# Altium footprint library 贴片.PcbLib: 190 footprints (part 3 of 13)
Each footprint in its own frame and in the unit in brackets; x right, y up, seen from the top. Pads: shape width x height; smd on the part's side, far side on the other; paste and mask are expansions set on the pad; w line width, h text height; cw(c..) or ccw(c..) is an arc to the next point about the centre after c.
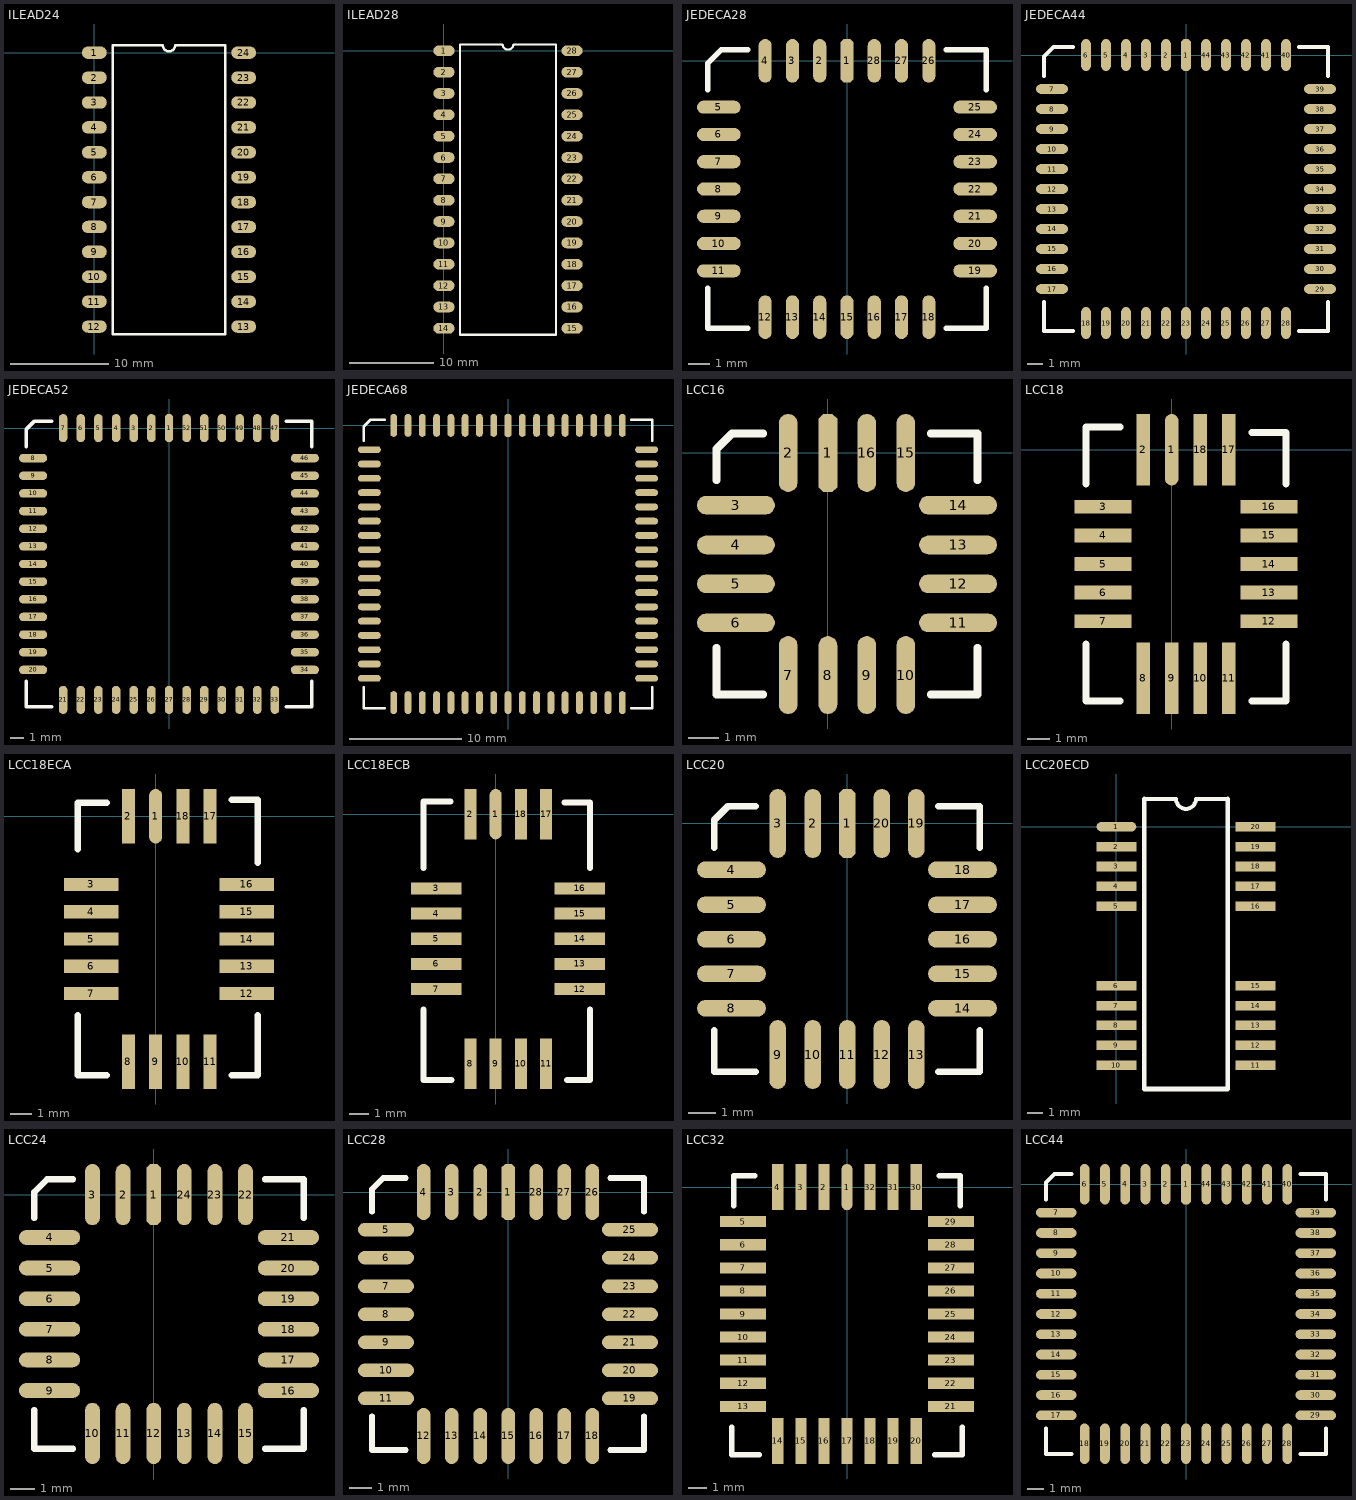
[diagram p2: the footprints below, top view; thin cyan lines are the x and y axes]

## ILEAD24 [mil]
pads (24):
  oval 100x50 smd: 1(0,0) 2(0,-100) 3(0,-200) 4(0,-300) 5(0,-400) 6(0,-500) 7(0,-600) 8(0,-700) 9(0,-800) 10(0,-900) 11(0,-1000) 12(0,-1100) 13(600,-1100) 14(600,-1000) 15(600,-900) 16(600,-800) 17(600,-700) 18(600,-600) 19(600,-500) 20(600,-400) 21(600,-300) 22(600,-200) 23(600,-100) 24(600,0)
TopOverlay:
  lines w10: 75,-1130 75,30 275,30 ccw(c300,30) 325,30 525,30 525,-1130 75,-1130

## ILEAD28 [mil]
pads (28):
  oval 100x50 smd: 1(0,0) 2(0,-100) 3(0,-200) 4(0,-300) 5(0,-400) 6(0,-500) 7(0,-600) 8(0,-700) 9(0,-800) 10(0,-900) 11(0,-1000) 12(0,-1100) 13(0,-1200) 14(0,-1300) 15(600,-1300) 16(600,-1200) 17(600,-1100) 18(600,-1000) 19(600,-900) 20(600,-800) 21(600,-700) 22(600,-600) 23(600,-500) 24(600,-400) 25(600,-300) 26(600,-200) 27(600,-100) 28(600,0)
TopOverlay:
  lines w10: 75,-1330 525,-1330 525,30 325,30 cw(c300,30) 275,30 75,30 75,-1330

## JEDECA28 [mil]
pads (28):
  oct 24x80 smd: 1(0,0)
  oval 24x80 smd: 2(-50,0) 3(-100,0) 4(-150,0) 12(-150,-470) 13(-100,-470) 14(-50,-470) 15(0,-470) 16(50,-470) 17(100,-470) 18(150,-470) 26(150,0) 27(100,0) 28(50,0)
  oval 80x24 smd: 5(-235,-85) 6(-235,-135) 7(-235,-185) 8(-235,-235) 9(-235,-285) 10(-235,-335) 11(-235,-385) 19(235,-385) 20(235,-335) 21(235,-285) 22(235,-235) 23(235,-185) 24(235,-135) 25(235,-85)
TopOverlay:
  lines w10: -255,-417 -255,-490 -182,-490 ; -255,-53 -255,-4 -231,20 -182,20 ; 182,-490 255,-490 255,-417 ; 182,20 255,20 255,-53

## JEDECA44 [mil]
pads (44):
  oct 24x80 smd: 1(0,0)
  oval 24x80 smd: 2(-50,0) 3(-100,0) 4(-150,0) 5(-200,0) 6(-250,0) 18(-250,-670) 19(-200,-670) 20(-150,-670) 21(-100,-670) 22(-50,-670) 23(0,-670) 24(50,-670) 25(100,-670) 26(150,-670) 27(200,-670) 28(250,-670) 40(250,0) 41(200,0) 42(150,0) 43(100,0) 44(50,0)
  oval 80x24 smd: 7(-335,-85) 8(-335,-135) 9(-335,-185) 10(-335,-235) 11(-335,-285) 12(-335,-335) 13(-335,-385) 14(-335,-435) 15(-335,-485) 16(-335,-535) 17(-335,-585) 29(335,-585) 30(335,-535) 31(335,-485) 32(335,-435) 33(335,-385) 34(335,-335) 35(335,-285) 36(335,-235) 37(335,-185) 38(335,-135) 39(335,-85)
TopOverlay:
  lines w10: -355,-617 -355,-690 -282,-690 ; -355,-53 -355,-4 -331,20 -282,20 ; 282,-690 355,-690 355,-617 ; 282,20 355,20 355,-53

## JEDECA52 [mil]
pads (52):
  oct 24x80 smd: 1(0,0)
  oval 24x80 smd: 2(-50,0) 3(-100,0) 4(-150,0) 5(-200,0) 6(-250,0) 7(-300,0) 21(-300,-770) 22(-250,-770) 23(-200,-770) 24(-150,-770) 25(-100,-770) 26(-50,-770) 27(0,-770) 28(50,-770) 29(100,-770) 30(150,-770) 31(200,-770) 32(250,-770) 33(300,-770) 47(300,0) 48(250,0) 49(200,0) 50(150,0) 51(100,0) 52(50,0)
  oval 80x24 smd: 8(-385,-85) 9(-385,-135) 10(-385,-185) 11(-385,-235) 12(-385,-285) 13(-385,-335) 14(-385,-385) 15(-385,-435) 16(-385,-485) 17(-385,-535) 18(-385,-585) 19(-385,-635) 20(-385,-685) 34(385,-685) 35(385,-635) 36(385,-585) 37(385,-535) 38(385,-485) 39(385,-435) 40(385,-385) 41(385,-335) 42(385,-285) 43(385,-235) 44(385,-185) 45(385,-135) 46(385,-85)
TopOverlay:
  lines w10: -405,-717 -405,-790 -332,-790 ; -405,-53 -405,-4 -381,20 -332,20 ; 332,-790 405,-790 405,-717 ; 332,20 405,20 405,-53

## JEDECA68 [mil]
pads (68):
  oct 24x80 smd: 1(0,0)
  oval 24x80 smd: 2(-50,0) 3(-100,0) 4(-150,0) 5(-200,0) 6(-250,0) 7(-300,0) 8(-350,0) 9(-400,0) 27(-400,-970) 28(-350,-970) 29(-300,-970) 30(-250,-970) 31(-200,-970) 32(-150,-970) 33(-100,-970) 34(-50,-970) 35(0,-970) 36(50,-970) 37(100,-970) 38(150,-970) 39(200,-970) 40(250,-970) 41(300,-970) 42(350,-970) 43(400,-970) 61(400,0) 62(350,0) 63(300,0) 64(250,0) 65(200,0) 66(150,0) 67(100,0) 68(50,0)
  oval 80x24 smd: 10(-485,-85) 11(-485,-135) 12(-485,-185) 13(-485,-235) 14(-485,-285) 15(-485,-335) 16(-485,-385) 17(-485,-435) 18(-485,-485) 19(-485,-535) 20(-485,-585) 21(-485,-635) 22(-485,-685) 23(-485,-735) 24(-485,-785) 25(-485,-835) 26(-485,-885) 44(485,-885) 45(485,-835) 46(485,-785) 47(485,-735) 48(485,-685) 49(485,-635) 50(485,-585) 51(485,-535) 52(485,-485) 53(485,-435) 54(485,-385) 55(485,-335) 56(485,-285) 57(485,-235) 58(485,-185) 59(485,-135) 60(485,-85)
TopOverlay:
  lines w10: -505,-917 -505,-990 -432,-990 ; -505,-53 -505,-4 -481,20 -432,20 ; 432,-990 505,-990 505,-917 ; 432,20 505,20 505,-53

## LCC16 [mil]
pads (16):
  oct 24x100 smd: 1(0,0)
  oval 24x100 smd: 2(-51,0) 7(-51,-285) 8(0,-285) 9(50,-285) 10(100,-285) 15(100,0) 16(50,0)
  oval 100x24 smd: 3(-118,-67) 4(-118,-118) 5(-118,-168) 6(-118,-218) 11(167,-218) 12(167,-168) 13(167,-118) 14(167,-67)
TopOverlay:
  lines w10: -143,-250 -143,-310 -83,-310 ; -143,-35 -143,5 -123,25 -83,25 ; 132,-310 192,-310 192,-250 ; 132,25 192,25 192,-35

## LCC18 [mil]
pads (18):
  oval 24x125 smd: 1(0,0)
  rect 24x125 smd: 2(-50,0) 8(-50,-400) 9(0,-400) 10(50,-400) 11(100,-400) 17(100,0) 18(50,0)
  rect 100x24 smd: 3(-120,-100) 4(-120,-150) 5(-120,-200) 6(-120,-250) 7(-120,-300) 12(170,-300) 13(170,-250) 14(170,-200) 15(170,-150) 16(170,-100)
TopOverlay:
  lines w12: -150,-340 -150,-440 -90,-440 ; -150,-60 -150,40 -90,40 ; 140,-440 200,-440 200,-340 ; 140,30 200,30 200,-60

## LCC18ECA [mil]
pads (18):
  oval 24x100 smd: 1(0,0)
  rect 24x100 smd: 2(-50,0) 8(-50,-450) 9(0,-450) 10(50,-450) 11(100,-450) 17(100,0) 18(50,0)
  rect 100x24 smd: 3(-118,-125) 4(-118,-175) 5(-118,-225) 6(-118,-275) 7(-118,-325) 12(167,-325) 13(167,-275) 14(167,-225) 15(167,-175) 16(167,-125)
TopOverlay:
  lines w12: -143,-365 -143,-475 -90,-475 ; -143,-60 -143,25 -90,25 ; 140,-475 187,-475 187,-365 ; 140,30 187,30 187,-85

## LCC18ECB [mil]
pads (18):
  oval 24x100 smd: 1(0,0)
  rect 24x100 smd: 2(-50,0) 8(-50,-495) 9(0,-495) 10(50,-495) 11(100,-495) 17(100,0) 18(50,0)
  rect 100x24 smd: 3(-118,-147) 4(-118,-197) 5(-118,-247) 6(-118,-297) 7(-118,-347) 12(167,-347) 13(167,-297) 14(167,-247) 15(167,-197) 16(167,-147)
TopOverlay:
  lines w12: -143,-387 -143,-527 -88,-527 ; -143,-107 -143,25 -90,25 ; 137,23 187,23 187,-107 ; 142,-527 187,-527 187,-387

## LCC20 [mil]
pads (20):
  oct 24x100 smd: 1(0,0)
  oval 24x100 smd: 2(-50,0) 3(-101,0) 9(-101,-335) 10(-50,-335) 11(0,-335) 12(50,-335) 13(100,-335) 19(100,0) 20(50,0)
  oval 100x24 smd: 4(-168,-67) 5(-168,-118) 6(-168,-168) 7(-168,-218) 8(-168,-268) 14(167,-268) 15(167,-218) 16(167,-168) 17(167,-118) 18(167,-67)
TopOverlay:
  lines w10: -193,-300 -193,-360 -133,-360 ; -193,-35 -193,5 -173,25 -133,25 ; 132,-360 192,-360 192,-300 ; 132,25 192,25 192,-35

## LCC20ECD [mil]
pads (20):
  oval 100x24 smd: 1(0,0)
  rect 100x24 smd: 2(0,-50) 3(0,-100) 4(0,-150) 5(0,-200) 6(0,-400) 7(0,-450) 8(0,-500) 9(0,-550) 10(0,-600) 11(350,-600) 12(350,-550) 13(350,-500) 14(350,-450) 15(350,-400) 16(350,-200) 17(350,-150) 18(350,-100) 19(350,-50) 20(350,0)
TopOverlay:
  lines w10: 70,70 150,70 ccw(c175,70) 200,70 280,70
  lines w12: 70,70 70,-660 280,-660 280,70

## LCC24 [mil]
pads (24):
  oct 24x100 smd: 1(0,0)
  oval 24x100 smd: 2(-50,0) 3(-100,0) 10(-100,-390) 11(-50,-390) 12(0,-390) 13(50,-390) 14(100,-390) 15(150,-390) 22(150,0) 23(100,0) 24(50,0)
  oval 100x24 smd: 4(-170,-70) 5(-170,-120) 6(-170,-170) 7(-170,-220) 8(-170,-270) 9(-170,-320) 16(220,-320) 17(220,-270) 18(220,-220) 19(220,-170) 20(220,-120) 21(220,-70)
TopOverlay:
  lines w10: -195,-352 -195,-415 -132,-415 ; -195,-38 -195,4 -174,25 -132,25 ; 182,-415 245,-415 245,-352 ; 182,25 245,25 245,-38

## LCC28 [mil]
pads (28):
  oct 24x100 smd: 1(0,0)
  oval 24x100 smd: 2(-50,0) 3(-101,0) 4(-151,0) 12(-151,-435) 13(-101,-435) 14(-50,-435) 15(0,-435) 16(50,-435) 17(100,-435) 18(150,-435) 26(150,0) 27(100,0) 28(50,0)
  oval 100x24 smd: 5(-218,-67) 6(-218,-117) 7(-218,-168) 8(-218,-218) 9(-218,-268) 10(-218,-318) 11(-218,-368) 19(217,-368) 20(217,-318) 21(217,-268) 22(217,-218) 23(217,-168) 24(217,-117) 25(217,-67)
TopOverlay:
  lines w10: -243,-400 -243,-460 -183,-460 ; -243,-35 -243,5 -223,25 -183,25 ; 182,-460 242,-460 242,-400 ; 182,25 242,25 242,-35

## LCC32 [mil]
pads (32):
  oval 24x100 smd: 1(0,0)
  rect 24x100 smd: 2(-50,0) 3(-100,0) 4(-150,0) 14(-150,-550) 15(-100,-550) 16(-50,-550) 17(0,-550) 18(50,-550) 19(100,-550) 20(150,-550) 30(150,0) 31(100,0) 32(50,0)
  rect 100x24 smd: 5(-225,-75) 6(-225,-125) 7(-225,-175) 8(-225,-225) 9(-225,-275) 10(-225,-325) 11(-225,-375) 12(-225,-425) 13(-225,-475) 21(225,-475) 22(225,-425) 23(225,-375) 24(225,-325) 25(225,-275) 26(225,-225) 27(225,-175) 28(225,-125) 29(225,-75)
TopOverlay:
  lines w12: -250,-520 -250,-580 -190,-580 ; -245,-40 -245,25 -200,25 ; 190,-580 250,-580 250,-520 ; 200,25 245,25 245,-40

## LCC44 [mil]
pads (44):
  oct 24x100 smd: 1(0,0)
  oval 24x100 smd: 2(-50,0) 3(-100,0) 4(-150,0) 5(-200,0) 6(-250,0) 18(-250,-640) 19(-200,-640) 20(-150,-640) 21(-100,-640) 22(-50,-640) 23(0,-640) 24(50,-640) 25(100,-640) 26(150,-640) 27(200,-640) 28(250,-640) 40(250,0) 41(200,0) 42(150,0) 43(100,0) 44(50,0)
  oval 100x24 smd: 7(-320,-70) 8(-320,-120) 9(-320,-170) 10(-320,-220) 11(-320,-270) 12(-320,-320) 13(-320,-370) 14(-320,-420) 15(-320,-470) 16(-320,-520) 17(-320,-570) 29(320,-570) 30(320,-520) 31(320,-470) 32(320,-420) 33(320,-370) 34(320,-320) 35(320,-270) 36(320,-220) 37(320,-170) 38(320,-120) 39(320,-70)
TopOverlay:
  lines w10: -345,-602 -345,-665 -282,-665 ; -345,-38 -345,4 -324,25 -282,25 ; 282,-665 345,-665 345,-602 ; 282,25 345,25 345,-38